# Altium schematic symbol library U_W25X40CLSNIG.SchLib: 1 symbol
Pins are listed as number, name and electrical type; pins without a type are passive.

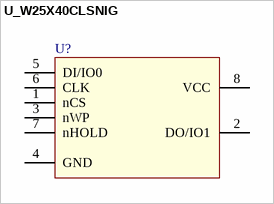
[diagram p0: symbol U_W25X40CLSNIG]

## U_W25X40CLSNIG
designator U?
pins: 1 nCS, 2 DO/IO1, 3 nWP, 4 GND, 5 DI/IO0, 6 CLK, 7 nHOLD, 8 VCC